# Altium footprint library ATMEL BGA-15 3X3MM 15CC1.PCBLIB: 1 footprints
Each footprint in its own frame and in the unit in brackets; x right, y up, seen from the top. Pads: shape width x height; smd on the part's side, far side on the other; paste and mask are expansions set on the pad; w line width, h text height; cw(c..) or ccw(c..) is an arc to the next point about the centre after c.
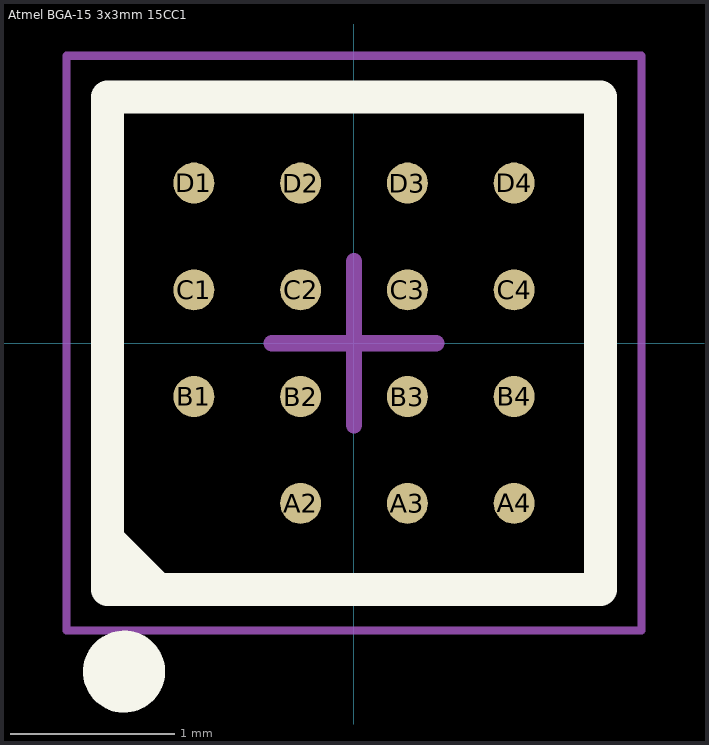
[diagram p0: the footprint, top view; thin cyan lines are the x and y axes]

## Atmel BGA-15 3x3mm 15CC1 [mm] "BGA, 15-Leads, Body 3.00x3.00mmx0.60mm, Pitch 0.65mm"
height 0.6
pads (15):
  round 0.25 smd: A2(-0.325,-0.975) A3(0.325,-0.975) A4(0.975,-0.975) B1(-0.975,-0.325) B2(-0.325,-0.325) B3(0.325,-0.325) B4(0.975,-0.325) C1(-0.975,0.325) C2(-0.325,0.325) C3(0.325,0.325) C4(0.975,0.325) D1(-0.975,0.975) D2(-0.325,0.975) D3(0.325,0.975) D4(0.975,0.975)
Top Overlay:
  circle w0.25: c-1.4,-2 r0.125
  region: -1.5,-1.192 -1.192,-1.5 -1.5,-1.5
  lines w0.2: -1.5,-1.192 -1.192,-1.5 ; -1.5,-1.5 -1.5,1.5 1.5,1.5 1.5,-1.5 -1.5,-1.5
Mechanical 13:
  lines w0.1: -1.5,-1.5 -1.5,1.5 1.5,1.5 1.5,-1.5 -1.5,-1.5
Mechanical 15:
  lines w0.05: -1.75,-1.75 -1.75,1.75 1.75,1.75 1.75,-1.75 -1.75,-1.75
  lines w0.1: -0.5,0 0.5,0 ; 0,-0.5 0,0.5
3D body: height 0.6, standoff 0.12, extent -1.5,-1.5 1.5,1.5